# EAGLE library part RJ45_SMT_TRXCOM (library Connetors_ACTIVE14)
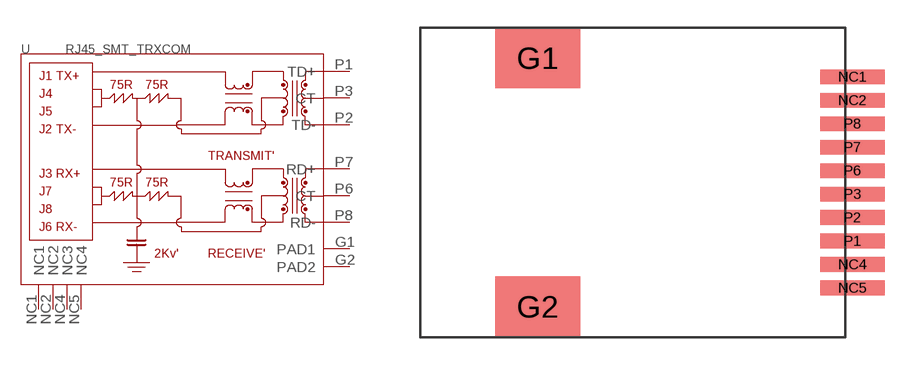
[diagram p2: symbol with the pads of RJ45_SMT; footprint RJ45_SMT]

Designator prefix -

## RJ45_SMT_TRXCOM1  [RJ45_SMT]
G1  PAD1
G2  PAD2
NC1  NC1
NC2  NC2
NC4  NC3
NC5  NC4
P1  TD+
P2  TD-
P3  CT
P6  CT
P7  RD+
P8  RD-

## Footprint RJ45_SMT (pad centres in mm)
smd 4.6 x 3.26: G1 -17.018,1.016; G2 -17.018,-12.446
smd 3.5 x 0.8: NC1 0,0; NC2 0,-1.27; NC4 0,-10.16; NC5 0,-11.43; P1 0,-8.89; P2 0,-7.62; P3 0,-6.35; P6 0,-5.08; P7 0,-3.81; P8 0,-2.54